# Altium schematic symbol library WCAP-FTY2.SchLib: 12 symbols
Pins are listed as number, name and electrical type; pins without a type are passive.

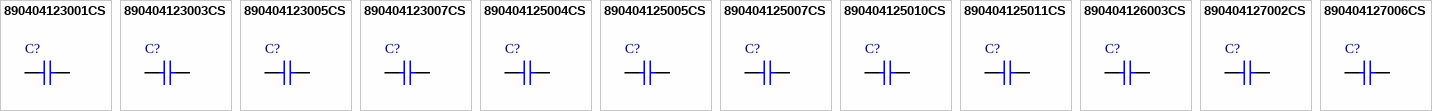
[diagram p0: symbols 890404123001CS to 890404127006CS]

## 890404123001CS
designator C?, comment 1nF  (value not drawn)
WCAP-FTY2 , THT, 13mm x 4mm x 9mm, 1nF, 300V (AC); Manufacturer Part Number: 890404123001CS; Manufacturer: Wurth Elektronik; Dissipation Factor @1kHz: 0.15%; Insulation Resistance: 25GΩ; Rate of Voltage Rise: 800V/µs; Rated Voltage for X1: 330V (AC); Category: Film Capacitors; Match Code: WCAP-FTY2; ComponentLink1Description: Website Link; ComponentLink1URL: https://www.we-online.com/redexpert/article/890404123001CS?ad; ComponentLink2Description: Datasheet Link; ComponentLink2URL: https://www.we-online.com/redexpert/spec/890404123001CS?ad; Mount: Through Hole; Min Operating Temperature: -40°C; Max Operating Temperature: 110°C; Packaging: Bag; Length: 13mm; Width: 4mm; Height: 9mm; Application: Across the mains or line to ground; Capacitance: 1nF; Lead Pitch: 10mm; Rated Voltage for Y2: 300V (AC)
footprint WCAP-FTY2_L13W4H9
pins: 1, 2

## 890404123003CS
designator C?, comment 2.2nF  (value not drawn)
WCAP-FTY2 , THT, 13mm x 4mm x 9mm, 2.2nF, 300V (AC); Manufacturer Part Number: 890404123003CS; Manufacturer: Wurth Elektronik; Dissipation Factor @1kHz: 0.15%; Insulation Resistance: 25GΩ; Rate of Voltage Rise: 800V/µs; Rated Voltage for X1: 330V (AC); Category: Film Capacitors; Match Code: WCAP-FTY2; ComponentLink1Description: Website Link; ComponentLink1URL: https://www.we-online.com/redexpert/article/890404123003CS?ad; ComponentLink2Description: Datasheet Link; ComponentLink2URL: https://www.we-online.com/redexpert/spec/890404123003CS?ad; Mount: Through Hole; Min Operating Temperature: -40°C; Max Operating Temperature: 110°C; Packaging: Bag; Length: 13mm; Width: 4mm; Height: 9mm; Application: Across the mains or line to ground; Capacitance: 2.2nF; Lead Pitch: 10mm; Rated Voltage for Y2: 300V (AC)
footprint WCAP-FTY2_L13W4H9
pins: 1, 2

## 890404123005CS
designator C?, comment 3.3nF  (value not drawn)
WCAP-FTY2 , THT, 13mm x 5mm x 11mm, 3.3nF, 300V (AC); Manufacturer Part Number: 890404123005CS; Manufacturer: Wurth Elektronik; Dissipation Factor @1kHz: 0.15%; Insulation Resistance: 25GΩ; Rate of Voltage Rise: 800V/µs; Rated Voltage for X1: 330V (AC); Category: Film Capacitors; Match Code: WCAP-FTY2; ComponentLink1Description: Website Link; ComponentLink1URL: https://www.we-online.com/redexpert/article/890404123005CS?ad; ComponentLink2Description: Datasheet Link; ComponentLink2URL: https://www.we-online.com/redexpert/spec/890404123005CS?ad; Mount: Through Hole; Min Operating Temperature: -40°C; Max Operating Temperature: 110°C; Packaging: Bag; Length: 13mm; Width: 5mm; Height: 11mm; Application: Across the mains or line to ground; Capacitance: 3.3nF; Lead Pitch: 10mm; Rated Voltage for Y2: 300V (AC)
footprint WCAP-FTY2_L13W5H11
pins: 1, 2

## 890404123007CS
designator C?, comment 4.7nF  (value not drawn)
WCAP-FTY2 , THT, 13mm x 5mm x 11mm, 4.7nF, 300V (AC); Manufacturer Part Number: 890404123007CS; Manufacturer: Wurth Elektronik; Dissipation Factor @1kHz: 0.15%; Insulation Resistance: 25GΩ; Rate of Voltage Rise: 800V/µs; Rated Voltage for X1: 330V (AC); Category: Film Capacitors; Match Code: WCAP-FTY2; ComponentLink1Description: Website Link; ComponentLink1URL: https://www.we-online.com/redexpert/article/890404123007CS?ad; ComponentLink2Description: Datasheet Link; ComponentLink2URL: https://www.we-online.com/redexpert/spec/890404123007CS?ad; Mount: Through Hole; Min Operating Temperature: -40°C; Max Operating Temperature: 110°C; Packaging: Bag; Length: 13mm; Width: 5mm; Height: 11mm; Application: Across the mains or line to ground; Capacitance: 4.7nF; Lead Pitch: 10mm; Rated Voltage for Y2: 300V (AC)
footprint WCAP-FTY2_L13W5H11
pins: 1, 2

## 890404125004CS
designator C?, comment 10nF  (value not drawn)
WCAP-FTY2 , THT, 18mm x 5mm x 11mm, 10nF, 300V (AC); Manufacturer Part Number: 890404125004CS; Manufacturer: Wurth Elektronik; Dissipation Factor @1kHz: 0.15%; Insulation Resistance: 25GΩ; Rate of Voltage Rise: 600V/µs; Rated Voltage for X1: 330V (AC); Category: Film Capacitors; Match Code: WCAP-FTY2; ComponentLink1Description: Website Link; ComponentLink1URL: https://www.we-online.com/redexpert/article/890404125004CS?ad; ComponentLink2Description: Datasheet Link; ComponentLink2URL: https://www.we-online.com/redexpert/spec/890404125004CS?ad; Mount: Through Hole; Min Operating Temperature: -40°C; Max Operating Temperature: 110°C; Packaging: Bag; Length: 18mm; Width: 5mm; Height: 11mm; Application: Across the mains or line to ground; Capacitance: 10nF; Lead Pitch: 15mm; Rated Voltage for Y2: 300V (AC)
footprint WCAP-FTY2_L18W5H11
pins: 1, 2

## 890404125005CS
designator C?, comment 15nF  (value not drawn)
WCAP-FTY2 , THT, 18mm x 5mm x 11mm, 15nF, 300V (AC); Manufacturer Part Number: 890404125005CS; Manufacturer: Wurth Elektronik; Dissipation Factor @1kHz: 0.15%; Insulation Resistance: 25GΩ; Rate of Voltage Rise: 600V/µs; Rated Voltage for X1: 330V (AC); Category: Film Capacitors; Match Code: WCAP-FTY2; ComponentLink1Description: Website Link; ComponentLink1URL: https://www.we-online.com/redexpert/article/890404125005CS?ad; ComponentLink2Description: Datasheet Link; ComponentLink2URL: https://www.we-online.com/redexpert/spec/890404125005CS?ad; Mount: Through Hole; Min Operating Temperature: -40°C; Max Operating Temperature: 110°C; Packaging: Bag; Length: 18mm; Width: 5mm; Height: 11mm; Application: Across the mains or line to ground; Capacitance: 15nF; Lead Pitch: 15mm; Rated Voltage for Y2: 300V (AC)
footprint WCAP-FTY2_L18W5H11
pins: 1, 2

## 890404125007CS
designator C?, comment 22nF  (value not drawn)
WCAP-FTY2 , THT, 18mm x 7mm x 12.5mm, 22nF, 300V (AC); Manufacturer Part Number: 890404125007CS; Manufacturer: Wurth Elektronik; Dissipation Factor @1kHz: 0.15%; Insulation Resistance: 25GΩ; Rate of Voltage Rise: 600V/µs; Rated Voltage for X1: 330V (AC); Category: Film Capacitors; Match Code: WCAP-FTY2; ComponentLink1Description: Website Link; ComponentLink1URL: https://www.we-online.com/redexpert/article/890404125007CS?ad; ComponentLink2Description: Datasheet Link; ComponentLink2URL: https://www.we-online.com/redexpert/spec/890404125007CS?ad; Mount: Through Hole; Min Operating Temperature: -40°C; Max Operating Temperature: 110°C; Packaging: Bag; Length: 18mm; Width: 7mm; Height: 12.5mm; Application: Across the mains or line to ground; Capacitance: 22nF; Lead Pitch: 15mm; Rated Voltage for Y2: 300V (AC)
footprint WCAP-FTY2_L18W7H12.5
pins: 1, 2

## 890404125010CS
designator C?, comment 47nF  (value not drawn)
WCAP-FTY2 , THT, 18mm x 9.5mm x 15.5mm, 47nF, 300V (AC); Manufacturer Part Number: 890404125010CS; Manufacturer: Wurth Elektronik; Dissipation Factor @1kHz: 0.15%; Insulation Resistance: 25GΩ; Rate of Voltage Rise: 600V/µs; Rated Voltage for X1: 330V (AC); Category: Film Capacitors; Match Code: WCAP-FTY2; ComponentLink1Description: Website Link; ComponentLink1URL: https://www.we-online.com/redexpert/article/890404125010CS?ad; ComponentLink2Description: Datasheet Link; ComponentLink2URL: https://www.we-online.com/redexpert/spec/890404125010CS?ad; Mount: Through Hole; Min Operating Temperature: -40°C; Max Operating Temperature: 110°C; Packaging: Bag; Length: 18mm; Width: 9.5mm; Height: 15.5mm; Application: Across the mains or line to ground; Capacitance: 47nF; Lead Pitch: 15mm; Rated Voltage for Y2: 300V (AC)
footprint WCAP-FTY2_L18W9.5H15.5
pins: 1, 2

## 890404125011CS
designator C?, comment 68nF  (value not drawn)
WCAP-FTY2 , THT, 18mm x 10mm x 18mm, 68nF, 300V (AC); Manufacturer Part Number: 890404125011CS; Manufacturer: Wurth Elektronik; Dissipation Factor @1kHz: 0.15%; Insulation Resistance: 25GΩ; Rate of Voltage Rise: 600V/µs; Rated Voltage for X1: 330V (AC); Category: Film Capacitors; Match Code: WCAP-FTY2; ComponentLink1Description: Website Link; ComponentLink1URL: https://www.we-online.com/redexpert/article/890404125011CS?ad; ComponentLink2Description: Datasheet Link; ComponentLink2URL: https://www.we-online.com/redexpert/spec/890404125011CS?ad; Mount: Through Hole; Min Operating Temperature: -40°C; Max Operating Temperature: 110°C; Packaging: Bag; Length: 18mm; Width: 10mm; Height: 18mm; Application: Across the mains or line to ground; Capacitance: 68nF; Lead Pitch: 15mm; Rated Voltage for Y2: 300V (AC)
footprint WCAP-FTY2_L18W10H18
pins: 1, 2

## 890404126003CS
designator C?, comment 100nF  (value not drawn)
WCAP-FTY2 , THT, 26.5mm x 8.5mm x 17mm, 100nF, 300V (AC); Manufacturer Part Number: 890404126003CS; Manufacturer: Wurth Elektronik; Dissipation Factor @1kHz: 0.15%; Insulation Resistance: 25GΩ; Rate of Voltage Rise: 500V/µs; Rated Voltage for X1: 330V (AC); Category: Film Capacitors; Match Code: WCAP-FTY2; ComponentLink1Description: Website Link; ComponentLink1URL: https://www.we-online.com/redexpert/article/890404126003CS?ad; ComponentLink2Description: Datasheet Link; ComponentLink2URL: https://www.we-online.com/redexpert/spec/890404126003CS?ad; Mount: Through Hole; Min Operating Temperature: -40°C; Max Operating Temperature: 110°C; Packaging: Bag; Length: 26.5mm; Width: 8.5mm; Height: 17mm; Application: Across the mains or line to ground; Capacitance: 100nF; Lead Pitch: 22.5mm; Rated Voltage for Y2: 300V (AC)
footprint WCAP-FTY2_L26.5W8.5H17
pins: 1, 2

## 890404127002CS
designator C?, comment 220nF  (value not drawn)
WCAP-FTY2 , THT, 32mm x 11mm x 20mm, 220nF, 300V (AC); Manufacturer Part Number: 890404127002CS; Manufacturer: Wurth Elektronik; Dissipation Factor @1kHz: 0.15%; Insulation Resistance: 25GΩ; Rate of Voltage Rise: 400V/µs; Rated Voltage for X1: 330V (AC); Category: Film Capacitors; Match Code: WCAP-FTY2; ComponentLink1Description: Website Link; ComponentLink1URL: https://www.we-online.com/redexpert/article/890404127002CS?ad; ComponentLink2Description: Datasheet Link; ComponentLink2URL: https://www.we-online.com/redexpert/spec/890404127002CS?ad; Mount: Through Hole; Min Operating Temperature: -40°C; Max Operating Temperature: 110°C; Packaging: Bag; Length: 32mm; Width: 11mm; Height: 20mm; Application: Across the mains or line to ground; Capacitance: 220nF; Lead Pitch: 27.5mm; Rated Voltage for Y2: 300V (AC)
footprint WCAP-FTY2_L32W11H20
pins: 1, 2

## 890404127006CS
designator C?, comment 470nF  (value not drawn)
WCAP-FTY2 , THT, 32mm x 17mm x 28mm, 470nF, 300V (AC); Manufacturer Part Number: 890404127006CS; Manufacturer: Wurth Elektronik; Dissipation Factor @1kHz: 0.15%; Insulation Resistance: 15.95GΩ; Rate of Voltage Rise: 400V/µs; Rated Voltage for X1: 330V (AC); Category: Film Capacitors; Match Code: WCAP-FTY2; ComponentLink1Description: Website Link; ComponentLink1URL: https://www.we-online.com/redexpert/article/890404127006CS?ad; ComponentLink2Description: Datasheet Link; ComponentLink2URL: https://www.we-online.com/redexpert/spec/890404127006CS?ad; Mount: Through Hole; Min Operating Temperature: -40°C; Max Operating Temperature: 110°C; Packaging: Bag; Length: 32mm; Width: 17mm; Height: 28mm; Application: Across the mains or line to ground; Capacitance: 470nF; Lead Pitch: 27.5mm; Rated Voltage for Y2: 300V (AC)
footprint WCAP-FTY2_L32W17H28
pins: 1, 2